# Altium footprint library USB3076-30-A.PcbLib: 1 footprints
Each footprint in its own frame and in the unit in brackets; x right, y up, seen from the top. Pads: shape width x height; smd on the part's side, far side on the other; paste and mask are expansions set on the pad; w line width, h text height; cw(c..) or ccw(c..) is an arc to the next point about the centre after c.
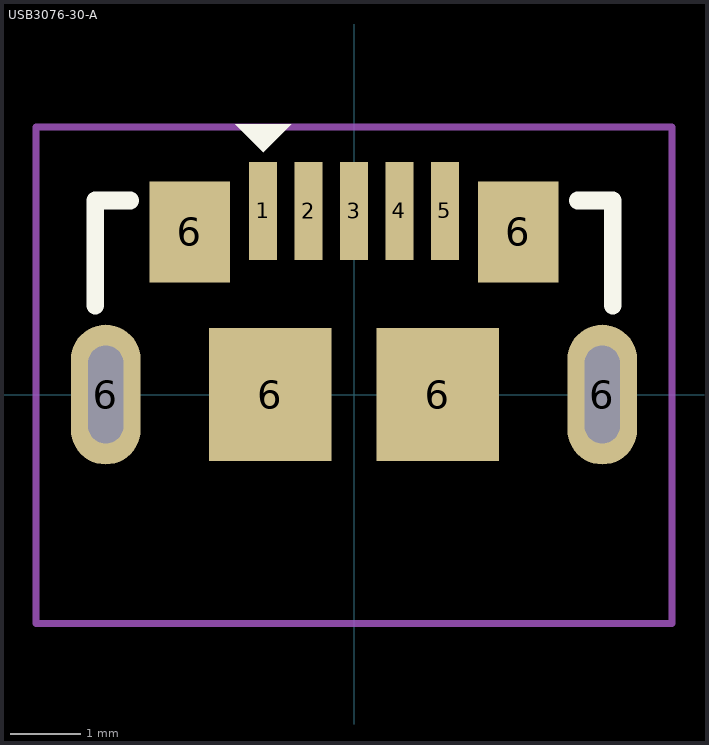
[diagram p0: the footprint, top view; thin cyan lines are the x and y axes]

## USB3076-30-A [mm]
pads (11):
  rect 0.4x1.4 smd: 1(-1.3,2.625) 2(-0.65,2.625) 3(0,2.625) 4(0.65,2.625) 5(1.3,2.625)
  oval 1x2 hole 0.5 slot 1.4 at 90 deg: 6(-3.55,0) 6(3.55,0)
  rect 1.15x1.45 smd: 6(-2.35,2.325) 6(2.35,2.325)
  rect 1.75x1.9 smd: 6(-1.2,0) 6(1.2,0)
Top Overlay:
  region: -1.7,3.862 -0.9,3.862 -1.3,3.463
  lines w0.254: -3.7,1.275 -3.7,2.775 -3.2,2.775 ; 3.2,2.775 3.7,2.775 3.7,1.275
Top Courtyard:
  lines w0.1: -4.55,-0.025 -4.55,3.825 ; 1.3,3.825 4.2,3.825 ; 3.7,-3.275 4.55,-3.275 ; 4.55,0 4.55,3.825 ; -4.55,3.825 4.2,3.825 ; -4.55,3.825 -4.55,-3.275 4.55,-3.275 ; 4.2,3.825 4.55,3.825 ; 4.55,-3.275 4.55,3.825
3D body "USB3076-30-A--3DModel-STEP-56544.STEP": height 2.66, standoff -1, extent -3.7,-2.775 3.7,2.775